# Altium schematic symbol library pcb_connect.SchLib: 6 symbols
Pins are listed as number, name and electrical type; pins without a type are passive.

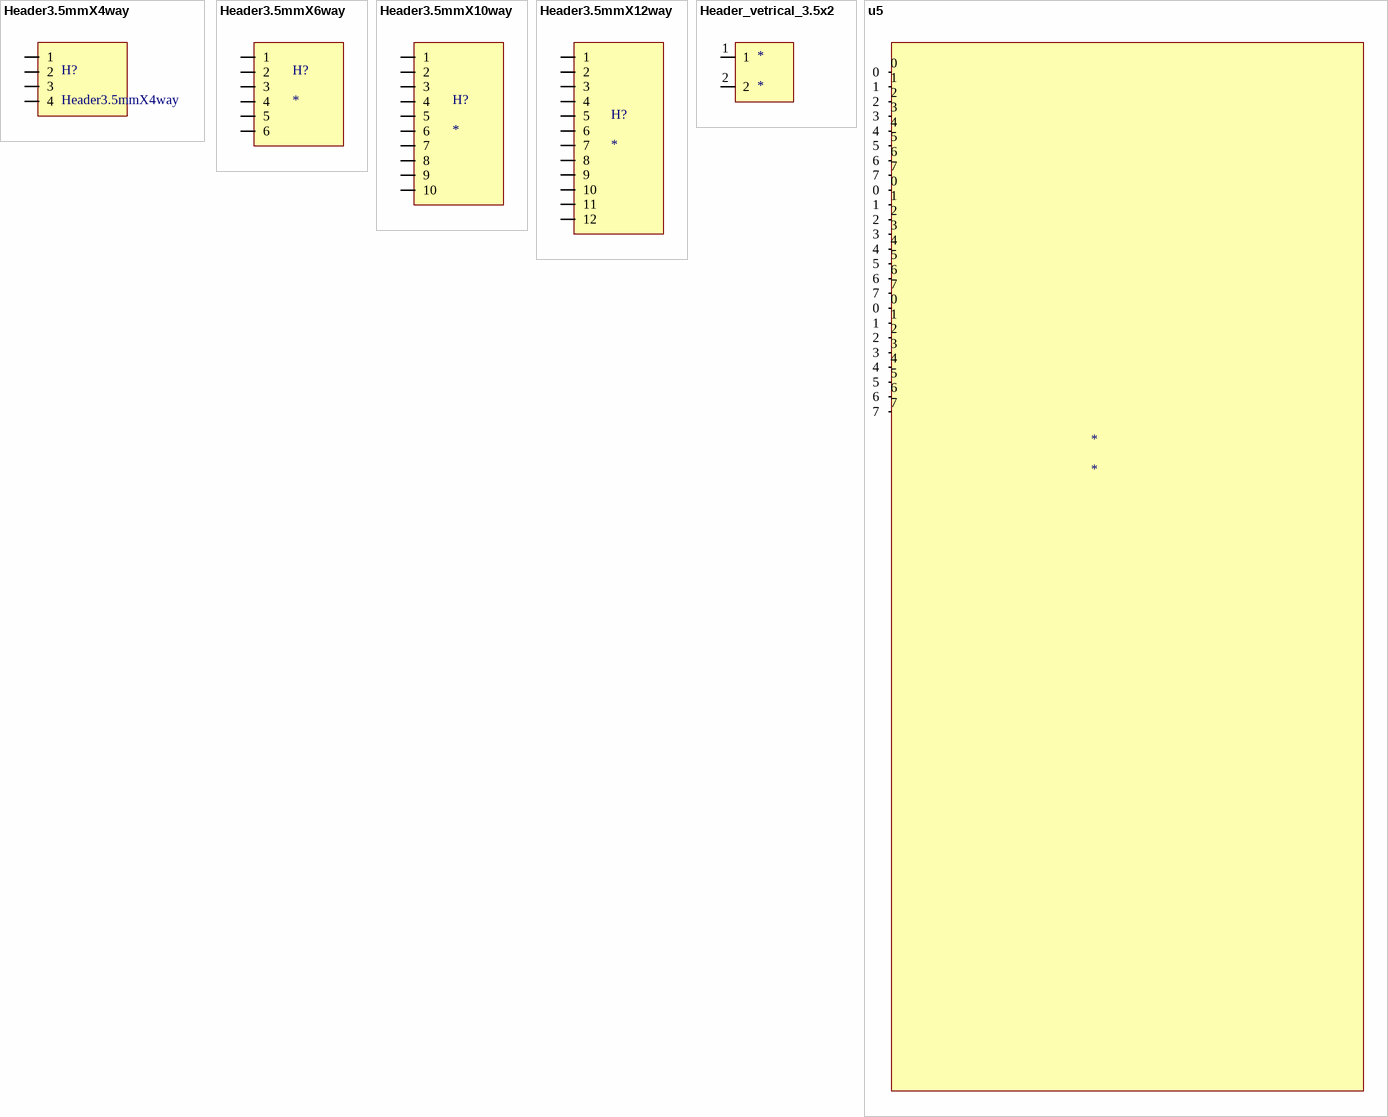
[diagram p0: symbols Header3.5mmX4way to u5]

## Header3.5mmX4way
designator H?
screw_connector
footprint Header3.5mmX4way (Footprint not found)
pins: 1, 2, 3, 4

## Header3.5mmX6way
designator H?
screw_connector
footprint Header3.5mmX6way
pins: 1, 2, 3, 4, 5, 6

## Header3.5mmX10way
designator H?
screw_connector
footprint Header3.5mmX10way
pins: 1, 2, 3, 4, 5, 6, 7, 8, 9, 10

## Header3.5mmX12way
designator H?
screw_connector
footprint Header3.5mmX12way
pins: 1, 2, 3, 4, 5, 6, 7, 8, 9, 10, 11, 12

## Header_vetrical_3.5x2
designator *
footprint header_vertical_3.5x2
pins: 1, 2

## u5
designator *
pins: 0, 0, 0, 1, 1, 1, 2, 2, 2, 3, 3, 3, 4, 4, 4, 5, 5, 5, 6, 6, 6, 7, 7, 7